# Altium footprint library InfoDisplayLibrary.PcbLib: 18 footprints (part 2 of 2)
Each footprint in its own frame and in the unit in brackets; x right, y up, seen from the top. Pads: shape width x height; smd on the part's side, far side on the other; paste and mask are expansions set on the pad; w line width, h text height; cw(c..) or ccw(c..) is an arc to the next point about the centre after c.
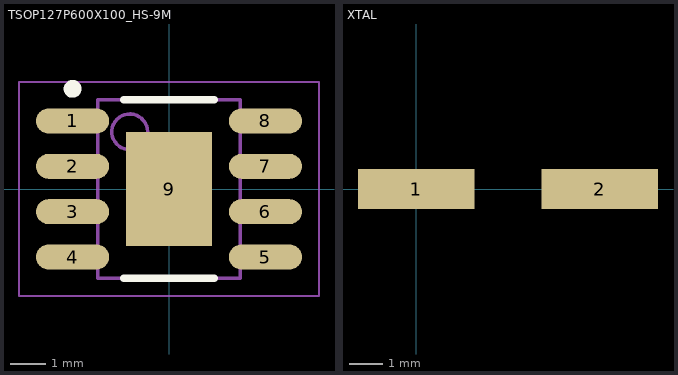
[diagram p1: the footprints below, top view; thin cyan lines are the x and y axes]

## TSOP127P600X100_HS-9M [mm] "TSOP, 8-Leads, Body 4.90x3.90mm, Pitch 1.27mm, Thermal Pad 3.20.2x2.40.2mm, IPC Low Density"
height 1
pads (9):
  oval 2.05x0.7 smd: 1(-2.7,1.905) 2(-2.7,0.635) 3(-2.7,-0.635) 4(-2.7,-1.905) 5(2.7,-1.905) 6(2.7,-0.635) 7(2.7,0.635) 8(2.7,1.905)
  rect 2.4x3.2 smd: 9(0,0)
Top Overlay:
  circle w0.25: c-2.7,2.805 r0.125
  lines w0.2: -1.275,-2.5 1.275,-2.5 ; -1.275,2.5 1.275,2.5
Mechanical 13:
  circle w0.1: c-1.1,1.6 r0.5
  lines w0.1: -2,-2.5 -2,2.5 2,2.5 2,-2.5 -2,-2.5
Mechanical 15:
  lines w0.05: -4.2,-3 -4.2,3 4.2,3 4.2,-3 -4.2,-3
  lines w0.1: -0.5,0 0.5,0 ; 0,-0.5 0,0.5
3D body: height 1, standoff 0.16, extent -2,-2.5 2,2.5

## XTAL [mm]
height 2.3
pads (2):
  rect 3.5x1.2 smd: 1(0,0) 2(5.5,0)
3D body: height 2.3, standoff 0, extent -0.889,-2.032 6.35,2.032